# EAGLE library part PTN78020W (library comma.ai)
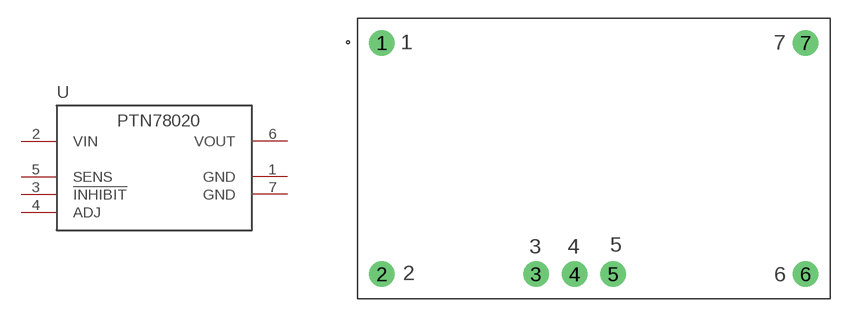
[diagram p10: symbol with the pads of PTN78020W; footprint PTN78020W]

Designator prefix -

## PTN78020W  [PTN78020W]
1  GND
2  VIN
3  !INHIBIT
4  ADJ
5  SENS
6  VOUT
7  GND

## Footprint PTN78020W (pad centres in mm)
drill 1.4: 1 2.03,-2.03; 2 2.03,-21.08; 3 14.73,-21.08; 4 17.91,-21.08; 5 21.09,-21.08; 6 36.96,-21.08; 7 36.96,-2.03